# Altium footprint library MSL0402RGBU1.PcbLib: 1 footprints
Each footprint in its own frame and in the unit in brackets; x right, y up, seen from the top. Pads: shape width x height; smd on the part's side, far side on the other; paste and mask are expansions set on the pad; w line width, h text height; cw(c..) or ccw(c..) is an arc to the next point about the centre after c.
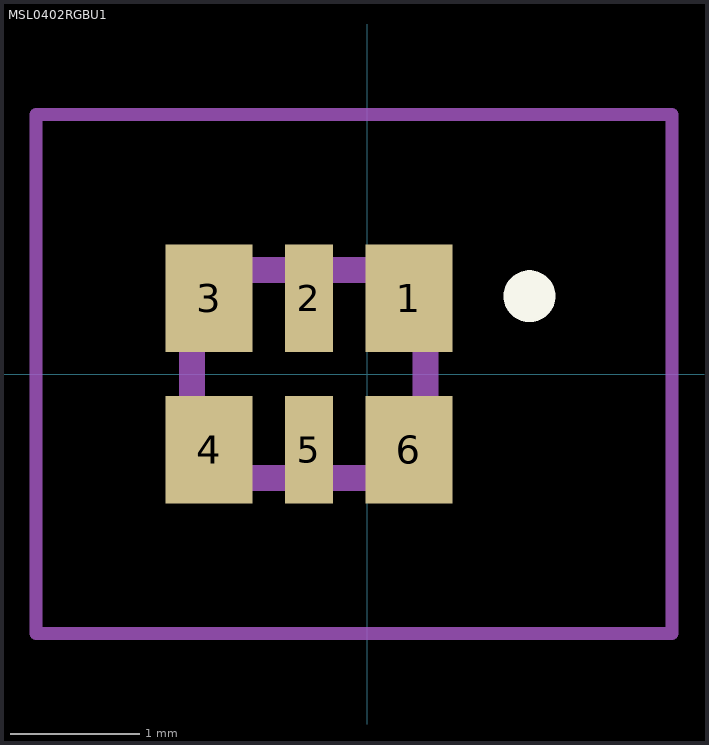
[diagram p0: the footprint, top view; thin cyan lines are the x and y axes]

## MSL0402RGBU1 [mm]
pads (6):
  rect 0.67x0.83 smd: 1(0.32,0.585) 3(-1.22,0.585) 4(-1.22,-0.585) 6(0.32,-0.585)
  rect 0.37x0.83 smd: 2(-0.45,0.585) 5(-0.45,-0.585)
Top Overlay:
  lines w0.2: 1.25,0.5 1.25,0.5 ; 1.25,0.5 cw(c1.25,0.6) 1.25,0.7 ; 1.25,0.5 ccw(c1.25,0.6) 1.25,0.7 ; 1.25,0.7 1.25,0.7
Mechanical 15:
  lines w0.2: -1.35,-0.8 0.45,-0.8 0.45,0.8 -1.35,0.8 -1.35,-0.8
Mechanical 20:
  lines w0.1: -2.555,-2 2.35,-2 2.35,2 -2.555,2 -2.555,-2